# EAGLE library part 1X09 (library headers)
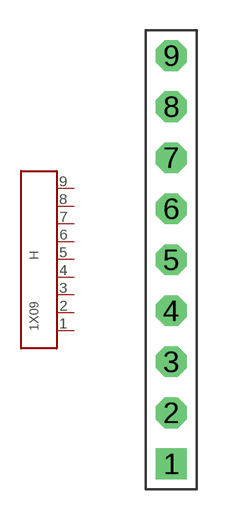
[diagram p3: symbol with the pads of DIP0.1-1X09; footprint DIP0.1-1X09]

Designator prefix H

## 1X09  [DIP0.1-1X09]
1  1
2  2
3  3
4  4
5  5
6  6
7  7
8  8
9  9

## Footprint DIP0.1-1X09 (pad centres in mm)
drill 1.016 square: 1 0,-10.16
drill 1.016 octagon: 2 0,-7.62; 3 0,-5.08; 4 0,-2.54; 5 0,0; 6 0,2.54; 7 0,5.08; 8 0,7.62; 9 0,10.16